# Altium integrated library 1761681-3.IntLib: 1 symbol
Pins are listed as number, name and electrical type; pins without a type are passive.

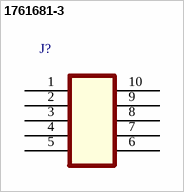
[diagram p0: symbol 1761681-3]

## 1761681-3
designator J?  (value not drawn)
IDC LOW PRO HDR 10P VERT HT BLACK; Centerline_Pitch: 2.54 mm[.1 in]; Number_of_Positions: 10; MF: TE Connectivity; Product_Type: Connector; Availability: Unavailable; SnapEDA_Link: https://www.snapeda.com/parts/1761681-3/TE%20Connectivity%20AMP%20Connectors/view-part/?ref=snap; EU_RoHS_Compliance: Compliant; Price: None; Package: None; TE_purchase_URL: https://www.te.com/usa-en/product-1761681-3.html?te_bu=Cor&te_type=disp&te_campaign=seda_glo_cor-seda-global-disp-prtnr-fy19-seda-model-bom-cta_sma-317_1&elqCampaignId=32493; MP: 1761681-3; Value: *
footprint *TE_1761681-3
pins: 1, 2, 3, 4, 5, 6, 7, 8, 9, 10